# Altium footprint library PS1440P02BT.PcbLib: 1 footprints
Each footprint in its own frame and in the unit in brackets; x right, y up, seen from the top. Pads: shape width x height; smd on the part's side, far side on the other; paste and mask are expansions set on the pad; w line width, h text height; cw(c..) or ccw(c..) is an arc to the next point about the centre after c.
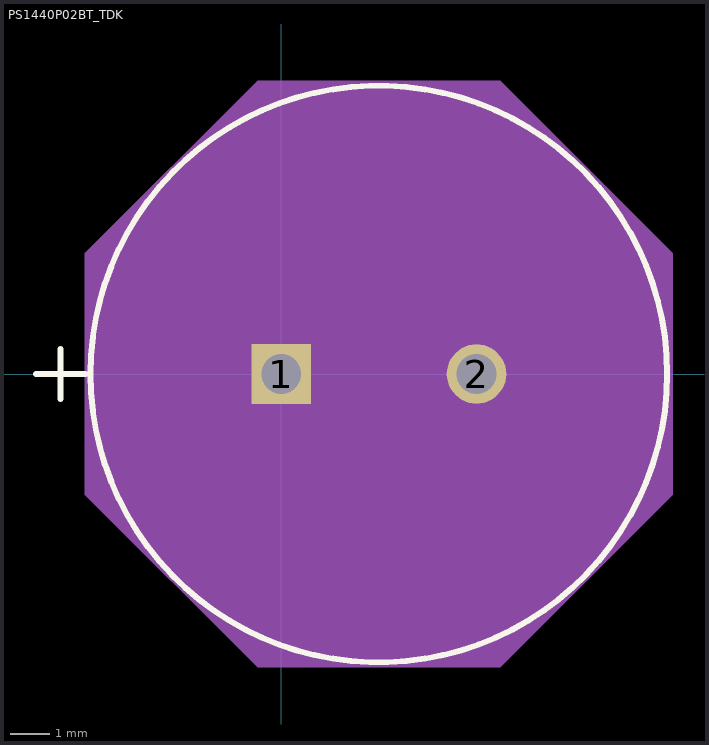
[diagram p0: the footprint, top view; thin cyan lines are the x and y axes]

## PS1440P02BT_TDK [mil]
pads (2):
  rect 60x60 / inner round 60 / far side rect 60x60 hole 40 paste-30 mask+0: 1(0,0)
  round 60 hole 40 paste-30 mask+0: 2(196.85,0)
Top Overlay:
  circle w6: c98.43,0 r290.5
  lines w6: -247.07,0 -197.07,0 ; -222.07,-25 -222.07,25
Mechanical 13:
  circle w0: c98.43,0 r285.5
  lines w1: -247.07,0 -197.07,0 ; -222.07,-25 -222.07,25
Mechanical 15:
  region: -197.07,121.68 -23.25,295.5 220.1,295.5 393.93,121.68 393.93,-121.68 220.1,-295.5 -23.25,-295.5 -197.07,-121.68
  lines w1: -197.07,-121.68 -23.25,-295.5 220.1,-295.5 393.93,-121.68 393.93,121.68 220.1,295.5 -23.25,295.5 -197.07,121.68 -197.07,-121.68
3D body "PS1440P02BT_TDK.step": height 335.63, standoff -190, extent -187.09,-285.02 385.32,285.02